# Altium footprint library diode.PCBLIB: 206 footprints (part 7 of 13)
Each footprint in its own frame and in the unit in brackets; x right, y up, seen from the top. Pads: shape width x height; smd on the part's side, far side on the other; paste and mask are expansions set on the pad; w line width, h text height; cw(c..) or ccw(c..) is an arc to the next point about the centre after c.
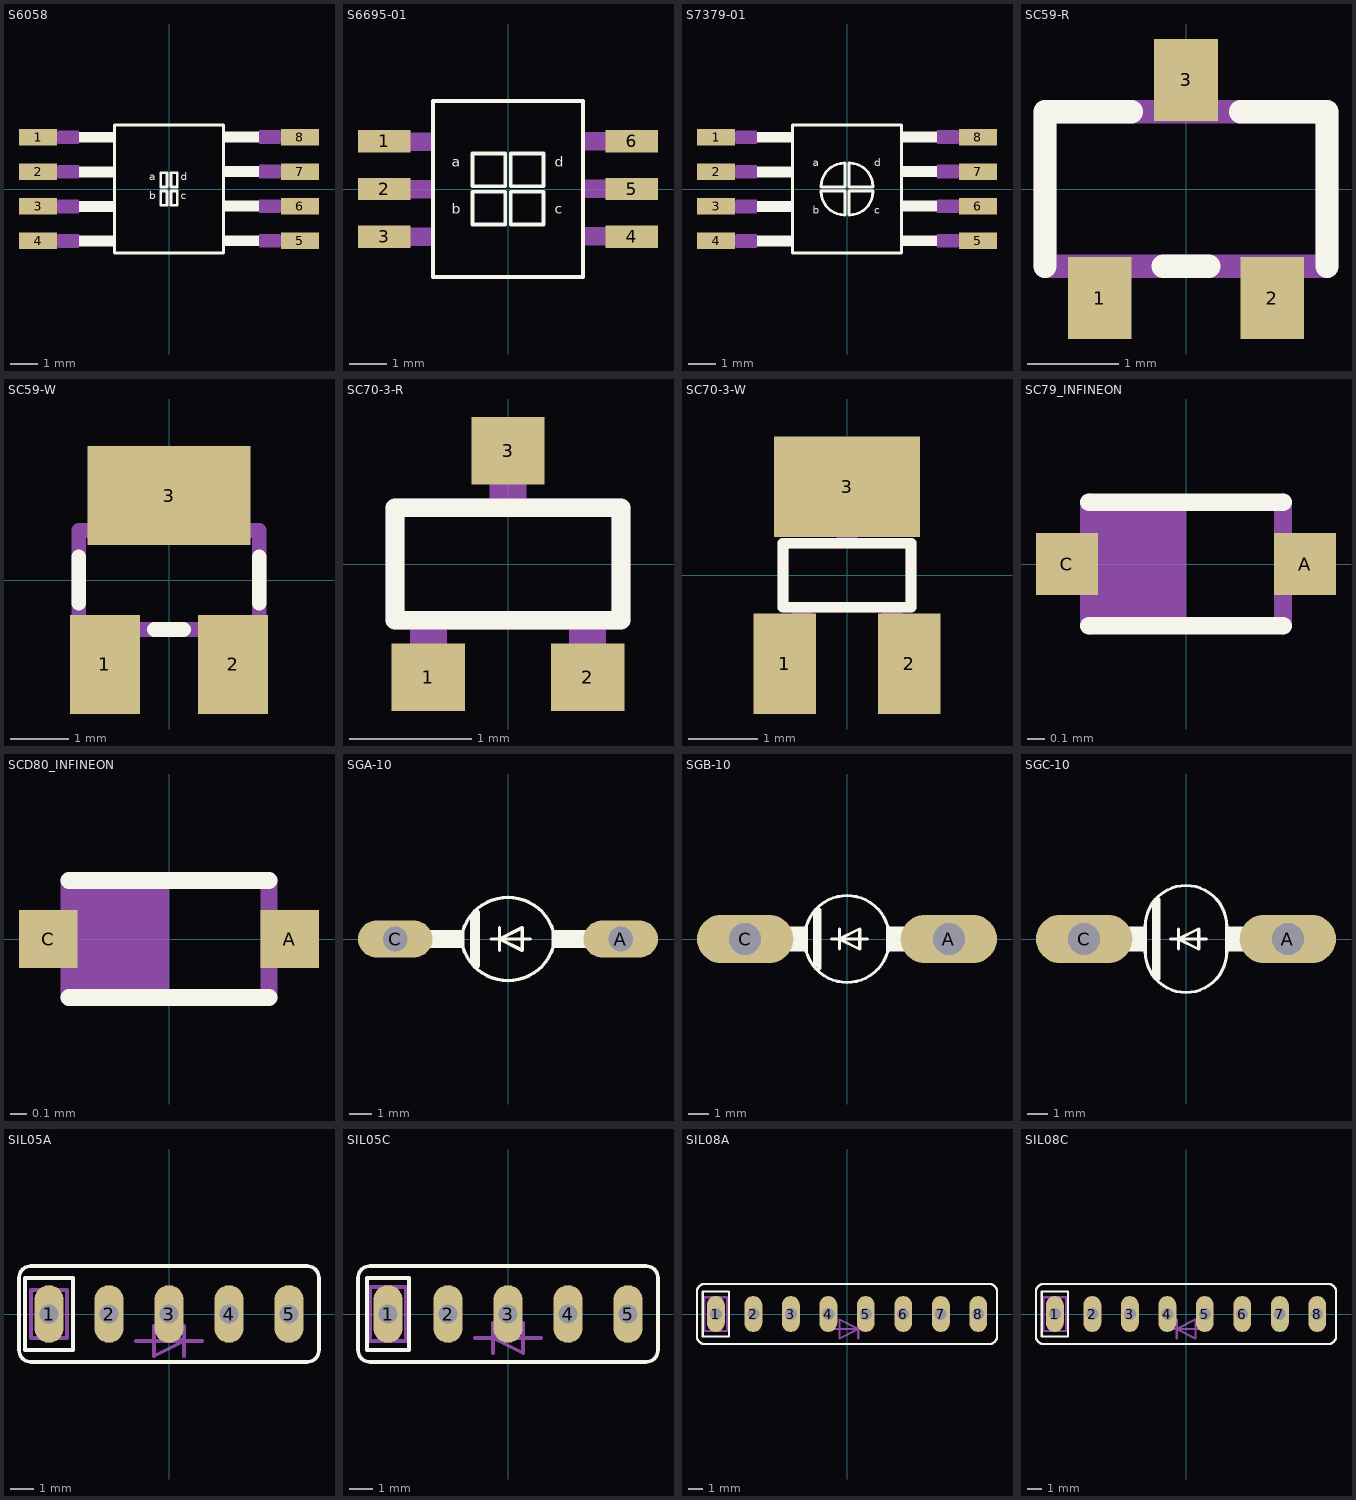
[diagram p6: the footprints below, top view; thin cyan lines are the x and y axes]

## S6058 [mil]
pads (8):
  rect 55.12x23.62 smd: 1(-189.17,75) 2(-189.17,25) 3(-189.17,-25) 4(-189.17,-75) 5(189.17,-75) 6(189.17,-25) 7(189.17,25) 8(189.17,75)
Top Overlay:
  rectangle: -129.92,66.93 -78.74,82.68
  rectangle: -129.92,16.93 -78.74,32.68
  rectangle: -129.92,-33.07 -78.74,-17.32
  rectangle: -129.92,-83.07 -78.74,-67.32
  region: 129.92,-66.93 78.74,-66.93 78.74,-82.68 129.92,-82.68
  region: 129.92,-16.93 78.74,-16.93 78.74,-32.68 129.92,-32.68
  region: 129.92,33.07 78.74,33.07 78.74,17.32 129.92,17.32
  region: 129.92,83.07 78.74,83.07 78.74,67.32 129.92,67.32
  lines w4: -78.74,-92.52 78.74,-92.52 78.74,92.52 -78.74,92.52 -78.74,-92.52 ; -11.81,-23.62 -11.81,-2.95 -2.95,-2.95 -2.95,-23.62 -11.81,-23.62 ; -11.81,2.95 -2.95,2.95 -2.95,23.62 -11.81,23.62 -11.81,2.95 ; 2.95,-23.62 2.95,-2.95 11.81,-2.95 11.81,-23.62 2.95,-23.62 ; 2.95,2.95 11.81,2.95 11.81,23.62 2.95,23.62 2.95,2.95
  text "a" at -28.54,8.86 h18.6
  text "b" at -28.54,-18.7 h18.6
  text "c" at 16.73,-18.7 h18.6
  text "d" at 16.73,8.86 h18.6
Mechanical 16:
  rectangle: -161.42,64.96 -129.92,84.65
  rectangle: -214.57,66.93 -161.42,82.68
  rectangle: -161.42,14.96 -129.92,34.65
  rectangle: -214.57,16.93 -161.42,32.68
  rectangle: -161.42,-35.04 -129.92,-15.35
  rectangle: -214.57,-33.07 -161.42,-17.32
  rectangle: -161.42,-85.04 -129.92,-65.35
  rectangle: -214.57,-83.07 -161.42,-67.32
  region: 161.42,-64.96 129.92,-64.96 129.92,-84.65 161.42,-84.65
  region: 214.57,-66.93 161.42,-66.93 161.42,-82.68 214.57,-82.68
  region: 161.42,-14.96 129.92,-14.96 129.92,-34.65 161.42,-34.65
  region: 214.57,-16.93 161.42,-16.93 161.42,-32.68 214.57,-32.68
  region: 161.42,35.04 129.92,35.04 129.92,15.35 161.42,15.35
  region: 214.57,33.07 161.42,33.07 161.42,17.32 214.57,17.32
  region: 161.42,85.04 129.92,85.04 129.92,65.35 161.42,65.35
  region: 214.57,83.07 161.42,83.07 161.42,67.32 214.57,67.32

## S6695-01 [mil]
pads (6):
  rect 55.12x23.62 smd: 1(-130.12,50) 2(-130.12,0) 3(-130.12,-50) 4(130.12,-50) 5(130.12,0) 6(130.12,50)
Top Overlay:
  lines w4: -78.74,-92.52 78.74,-92.52 78.74,92.52 -78.74,92.52 -78.74,-92.52 ; -37.4,-37.4 -37.4,-2.95 -2.95,-2.95 -2.95,-37.4 -37.4,-37.4 ; -37.4,2.95 -2.95,2.95 -2.95,37.4 -37.4,37.4 -37.4,2.95 ; 2.95,-37.4 2.95,-2.95 37.4,-2.95 37.4,-37.4 2.95,-37.4 ; 2.95,2.95 37.4,2.95 37.4,37.4 2.95,37.4 2.95,2.95
  text "a" at -59.06,19.69 h18.6
  text "b" at -59.06,-29.53 h18.6
  text "c" at 49.21,-29.53 h18.6
  text "d" at 49.21,19.69 h18.6
Mechanical 16:
  rectangle: -139.76,39.96 -79.72,59.65
  rectangle: -139.76,-10.04 -79.72,9.65
  rectangle: -139.76,-60.04 -79.72,-40.35
  region: 139.76,-39.96 79.72,-39.96 79.72,-59.65 139.76,-59.65
  region: 139.76,10.04 79.72,10.04 79.72,-9.65 139.76,-9.65
  region: 139.76,60.04 79.72,60.04 79.72,40.35 139.76,40.35

## S7379-01 [mil]
pads (8):
  rect 55.12x23.62 smd: 1(-189.17,75) 2(-189.17,25) 3(-189.17,-25) 4(-189.17,-75) 5(189.17,-75) 6(189.17,-25) 7(189.17,25) 8(189.17,75)
Top Overlay:
  rectangle: -129.92,66.93 -78.74,82.68
  rectangle: -129.92,16.93 -78.74,32.68
  rectangle: -129.92,-33.07 -78.74,-17.32
  rectangle: -129.92,-83.07 -78.74,-67.32
  region: 129.92,-66.93 78.74,-66.93 78.74,-82.68 129.92,-82.68
  region: 129.92,-16.93 78.74,-16.93 78.74,-32.68 129.92,-32.68
  region: 129.92,33.07 78.74,33.07 78.74,17.32 129.92,17.32
  region: 129.92,83.07 78.74,83.07 78.74,67.32 129.92,67.32
  lines w4: -78.74,-92.52 78.74,-92.52 78.74,92.52 -78.74,92.52 -78.74,-92.52 ; -37.4,-3.94 ccw(c-3.94,-3.94) -3.94,-37.4 -2.95,-37.4 -2.95,-2.95 -37.4,-2.95 -37.4,-3.94 ; -37.4,2.95 -2.95,2.95 -2.95,37.4 -3.94,37.4 ccw(c-3.94,3.94) -37.4,3.94 -37.4,2.95 ; 2.95,-37.4 2.95,-2.95 37.4,-2.95 37.4,-3.94 cw(c3.94,-3.94) 3.94,-37.4 2.95,-37.4 ; 2.95,2.95 37.4,2.95 37.4,3.94 ccw(c3.94,3.94) 3.94,37.4 2.95,37.4 2.95,2.95
  text "a" at -49.21,29.53 h18.6
  text "b" at -49.21,-39.37 h18.6
  text "c" at 39.37,-39.37 h18.6
  text "d" at 39.37,29.53 h18.6
Mechanical 16:
  rectangle: -161.42,64.96 -129.92,84.65
  rectangle: -214.57,66.93 -161.42,82.68
  rectangle: -161.42,14.96 -129.92,34.65
  rectangle: -214.57,16.93 -161.42,32.68
  rectangle: -161.42,-35.04 -129.92,-15.35
  rectangle: -214.57,-33.07 -161.42,-17.32
  rectangle: -161.42,-85.04 -129.92,-65.35
  rectangle: -214.57,-83.07 -161.42,-67.32
  region: 161.42,-64.96 129.92,-64.96 129.92,-84.65 161.42,-84.65
  region: 214.57,-66.93 161.42,-66.93 161.42,-82.68 214.57,-82.68
  region: 161.42,-14.96 129.92,-14.96 129.92,-34.65 161.42,-34.65
  region: 214.57,-16.93 161.42,-16.93 161.42,-32.68 214.57,-32.68
  region: 161.42,35.04 129.92,35.04 129.92,15.35 161.42,15.35
  region: 214.57,33.07 161.42,33.07 161.42,17.32 214.57,17.32
  region: 161.42,85.04 129.92,85.04 129.92,65.35 161.42,65.35
  region: 214.57,83.07 161.42,83.07 161.42,67.32 214.57,67.32

## SC59-R [mil]
pads (3):
  rect 27.56x35.43 smd: 1(-37.4,-47.24) 2(37.4,-47.24) 3(0,47.24)
Top Overlay:
  lines w10: -61.02,-33.46 -61.02,33.46 -23.62,33.46 ; -9.84,-33.46 9.84,-33.46 ; 23.62,33.46 61.02,33.46 61.02,-33.46
Mechanical 16:
  rectangle: -45.28,-59.06 -29.53,-37.4
  rectangle: 29.53,-59.06 45.28,-37.4
  rectangle: -7.87,37.4 7.87,59.06
  lines w10: -61.02,-33.46 61.02,-33.46 61.02,33.46 -61.02,33.46 -61.02,-33.46

## SC59-W [mil]
pads (3):
  rect 47.24x66.93 smd: 1(-43.31,-57.09) 2(43.31,-57.09)
  rect 110.24x66.93 smd: 3(0,57.09)
Top Overlay:
  lines w10: -61.02,-15.75 -61.02,15.75 ; -9.84,-33.46 9.84,-33.46 ; 61.02,-15.75 61.02,15.75
Mechanical 16:
  rectangle: -45.28,-59.06 -29.53,-37.4
  rectangle: 29.53,-59.06 45.28,-37.4
  rectangle: -7.87,37.4 7.87,59.06
  lines w10: -61.02,-33.46 61.02,-33.46 61.02,33.46 -61.02,33.46 -61.02,-33.46

## SC70-3-R [mm]
pads (3):
  rect 0.6x0.55 smd: 1(-0.65,-0.925) 2(0.65,-0.925) 3(0,0.925)
Top Overlay:
  lines w0.152: -0.923,-0.461 0.923,-0.461 0.923,0.461 -0.923,0.461 -0.923,-0.461
Mechanical 16:
  rectangle: -0.8,-1.1 -0.5,-0.5
  rectangle: 0.5,-1.1 0.8,-0.5
  rectangle: -0.15,0.5 0.15,1.1
  lines w0.152: -0.923,-0.461 0.923,-0.461 0.923,0.461 -0.923,0.461 -0.923,-0.461

## SC70-3-W [mil]
pads (3):
  rect 35.43x57.09 smd: 1(-35.43,-50.2) 2(35.43,-50.2)
  rect 82.68x57.09 smd: 3(0,50.2)
Top Overlay:
  lines w6: -36.32,-18.13 36.32,-18.13 36.32,18.13 -36.32,18.13 -36.32,-18.13
Mechanical 16:
  rectangle: -31.5,-43.31 -19.69,-19.69
  rectangle: 19.69,-43.31 31.5,-19.69
  rectangle: -5.91,19.69 5.91,43.31
  lines w6: -36.32,-18.13 36.32,-18.13 36.32,18.13 -36.32,18.13 -36.32,-18.13

## SC79_INFINEON [mm]
pads (2):
  rect 0.35x0.35 smd: A(0.675,0) C(-0.675,0)
Top Overlay:
  lines w0.102: -0.55,-0.35 0.55,-0.35 ; -0.55,0.35 0.55,0.35
Mechanical 16:
  rectangle: -0.8,-0.15 -0.55,0.15
  rectangle: 0.55,-0.15 0.8,0.15
  rectangle: -0.55,-0.35 0,0.35
  lines w0.102: -0.55,-0.35 -0.55,0.35 ; 0.55,-0.35 0.55,0.35

## SCD80_INFINEON [mm]
pads (2):
  rect 0.35x0.35 smd: A(0.725,0) C(-0.725,0)
Top Overlay:
  lines w0.102: -0.6,-0.35 0.6,-0.35 ; -0.6,0.35 0.6,0.35
Mechanical 16:
  rectangle: -0.6,-0.35 0,0.35
  rectangle: -0.85,-0.15 -0.6,0.15
  rectangle: 0.6,-0.15 0.85,0.15
  lines w0.102: -0.6,-0.35 -0.6,0.35 ; 0.6,-0.35 0.6,0.35

## SGA-10 [mil]
pads (2):
  oval 132x66 hole 44: A(200,0) C(-200,0)
Top Overlay:
  rectangle: 80,-16 152,16
  rectangle: -152,-16 -80,16
  lines w6: -30,0 -15,0 ; -15,-20 -15,0 ; -15,20 -15,0 ; 40,0 -15,0 ; -15,0 25,-20 25,20 -15,0 ; -80,-15 -80,15 cw(c0,-10) 80,15 80,-15 cw(c0,10) -80,-15
  lines w10: -62,-40 -62,41 ; -55,-47 -55,47
Mechanical 16:
  lines w32: -200,0 -125,0 ; 125,0 200,0

## SGB-10 [mil]
pads (2):
  oval 189x94.5 hole 63: A(200,0) C(-200,0)
Top Overlay:
  rectangle: -130,-25 -80,25
  rectangle: 80,-25 130,25
  lines w6: -30,0 -15,0 ; -15,-20 -15,0 ; -15,20 -15,0 ; 40,0 -15,0 ; -15,0 25,-20 25,20 -15,0 ; -80,-25 -80,25 cw(c0,2) 80,25 80,-25 cw(c0,-2) -80,-25
  lines w10: -62,-50 -62,51 ; -55,-57 -55,57
Mechanical 16:
  lines w50: -200,0 -125,0 ; 125,0 200,0

## SGC-10 [mil]
pads (2):
  oval 189x94.5 hole 63: A(200,0) C(-200,0)
Top Overlay:
  rectangle: -130,-25 -80,25
  rectangle: 80,-25 130,25
  lines w6: -30,0 -15,0 ; -15,-20 -15,0 ; -15,20 -15,0 ; 40,0 -15,0 ; -15,0 25,-20 25,20 -15,0 ; -80,-25 -80,25 cw(c0,25) 80,25 80,-25 cw(c0,-25) -80,-25
  lines w10: -62,-70 -62,70 ; -55,-77 -55,77
Mechanical 16:
  lines w50: -200,0 -125,0 ; 125,0 200,0

## SIL05A [mil]
pads (5):
  oval 48x96 hole 32: 1(-200,0) 2(-100,0) 3(0,0) 4(100,0) 5(200,0)
Top Overlay:
  lines w6: -250,-60 ccw(c-230,-60) -230,-80 230,-80 ccw(c230,-60) 250,-60 250,60 ccw(c230,60) 230,80 -230,80 ccw(c-230,60) -250,60 -250,-60 ; -240,-60 -160,-60 -160,60 -240,60 -240,-60
Mechanical 16:
  lines w6: -55,-45 -25,-45 ; 25,-70 25,-45 ; 25,-20 25,-45 ; 55,-45 25,-45 ; -25,-45 -25,-70 25,-45 ; -25,-45 -25,-20 25,-45 ; -25,-45 25,-45 ; -230,-40 -170,-40 -170,40 -230,40 -230,-40

## SIL05C [mil]
pads (5):
  oval 48x96 hole 32: 1(-200,0) 2(-100,0) 3(0,0) 4(100,0) 5(200,0)
Top Overlay:
  lines w6: -250,-60 ccw(c-230,-60) -230,-80 230,-80 ccw(c230,-60) 250,-60 250,60 ccw(c230,60) 230,80 -230,80 ccw(c-230,60) -250,60 -250,-60 ; -235,-60 -165,-60 -165,60 -235,60 -235,-60
Mechanical 16:
  lines w6: -55,-40 -25,-40 ; -25,-65 -25,-40 ; -25,-15 -25,-40 ; 55,-40 25,-40 ; -25,-40 25,-15 25,-40 ; -25,-40 25,-65 25,-40 ; -25,-40 25,-40 ; -230,-45 -170,-45 -170,45 -230,45 -230,-45

## SIL08A [mil]
pads (8):
  oval 48x96 hole 32: 1(-350,0) 2(-250,0) 3(-150,0) 4(-50,0) 5(50,0) 6(150,0) 7(250,0) 8(350,0)
Top Overlay:
  lines w6: -400,-60 ccw(c-380,-60) -380,-80 380,-80 ccw(c380,-60) 400,-60 400,60 ccw(c380,60) 380,80 -380,80 ccw(c-380,60) -400,60 -400,-60 ; -385,-60 -315,-60 -315,60 -385,60 -385,-60
Mechanical 16:
  lines w6: -50,-40 -20,-40 ; 30,-65 30,-40 ; 30,-15 30,-40 ; 60,-40 30,-40 ; -20,-40 -20,-65 30,-40 ; -20,-40 -20,-15 30,-40 ; -20,-40 30,-40 ; -380,-45 -320,-45 -320,45 -380,45 -380,-45

## SIL08C [mil]
pads (8):
  oval 48x96 hole 32: 1(-350,0) 2(-250,0) 3(-150,0) 4(-50,0) 5(50,0) 6(150,0) 7(250,0) 8(350,0)
Top Overlay:
  lines w6: -400,-60 ccw(c-380,-60) -380,-80 380,-80 ccw(c380,-60) 400,-60 400,60 ccw(c380,60) 380,80 -380,80 ccw(c-380,60) -400,60 -400,-60 ; -385,-60 -315,-60 -315,60 -385,60 -385,-60
Mechanical 16:
  lines w6: -55,-40 -25,-40 ; -25,-65 -25,-40 ; -25,-15 -25,-40 ; 55,-40 25,-40 ; -25,-40 25,-15 25,-40 ; -25,-40 25,-65 25,-40 ; -25,-40 25,-40 ; -380,-45 -320,-45 -320,45 -380,45 -380,-45